# Altium footprint library base.PcbLib: 29 footprints (part 1 of 2)
Each footprint in its own frame and in the unit in brackets; x right, y up, seen from the top. Pads: shape width x height; smd on the part's side, far side on the other; paste and mask are expansions set on the pad; w line width, h text height; cw(c..) or ccw(c..) is an arc to the next point about the centre after c.
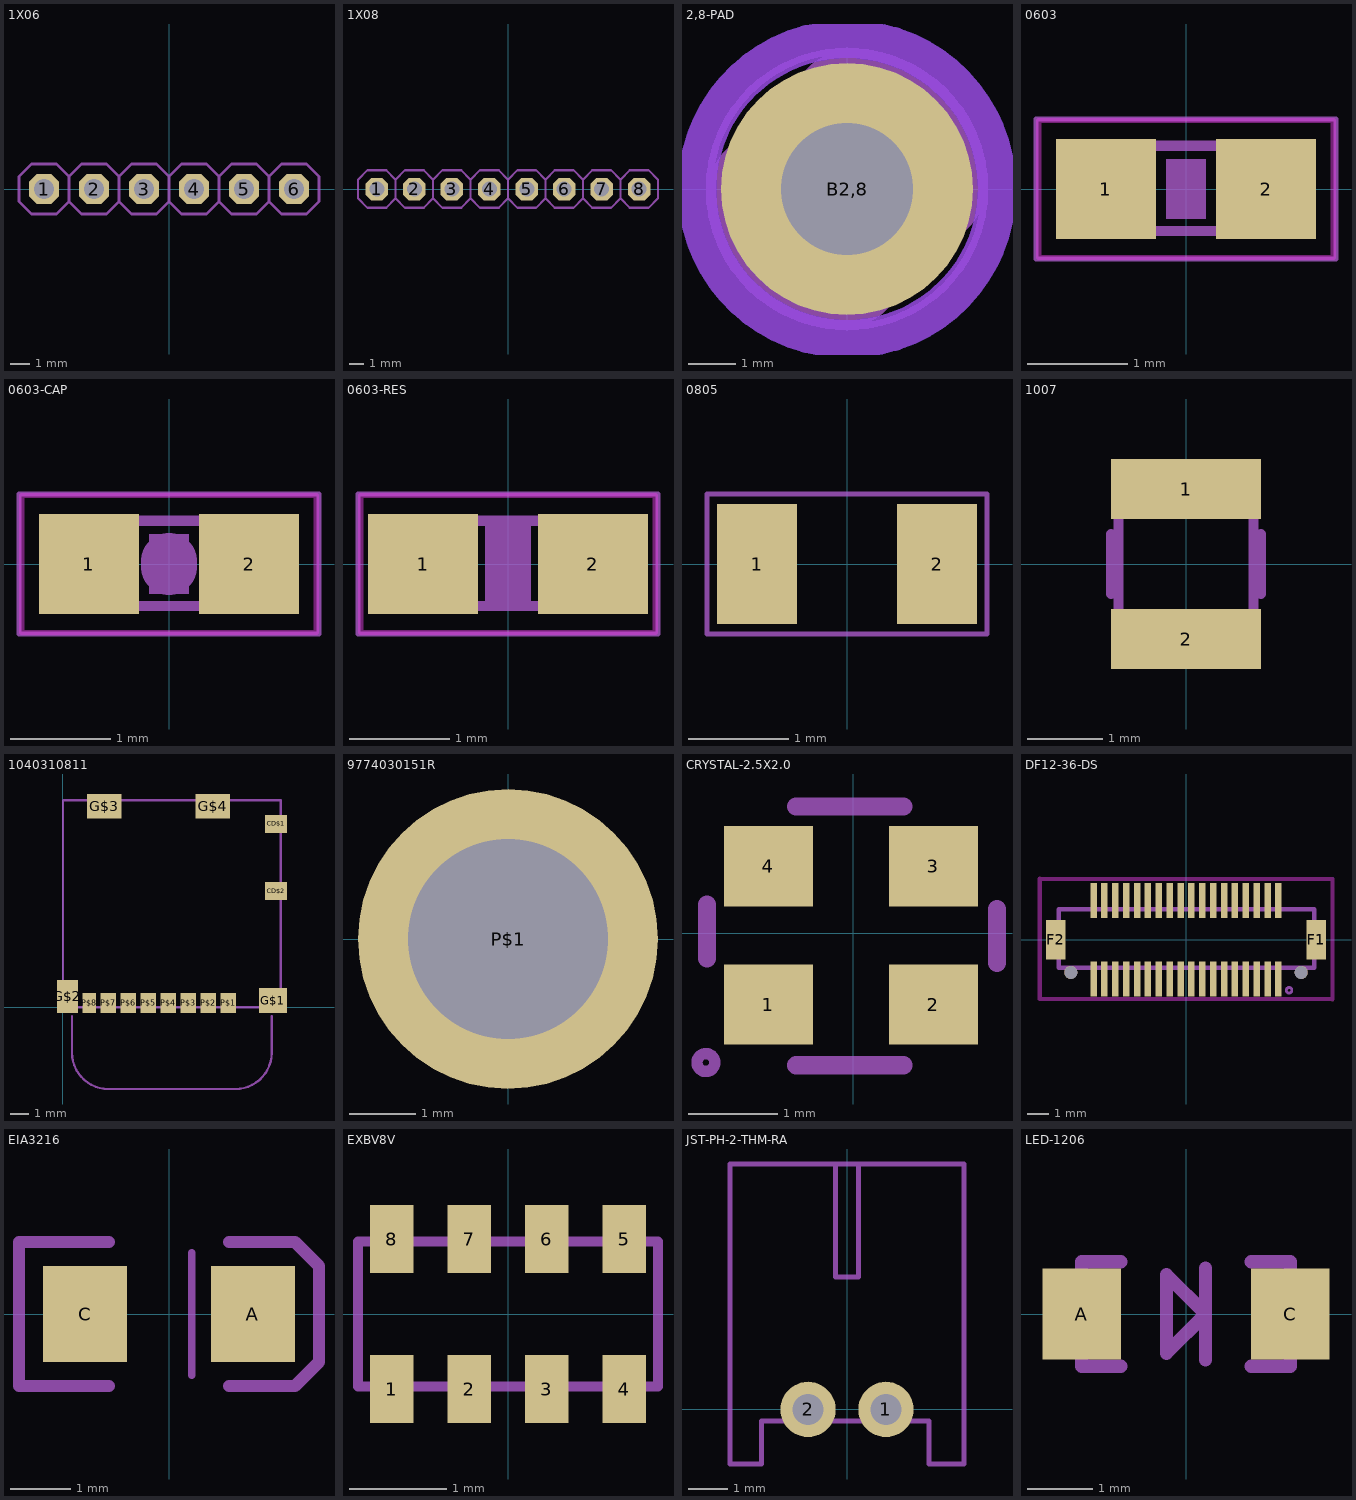
[diagram p0: the footprints below, top view; thin cyan lines are the x and y axes]

## 1X06 [mil] "1X06"
pads (6):
  oct 60x60 hole 40: 1(-250,0) 2(-150,0) 3(-50,0) 4(50,0) 5(150,0) 6(250,0)
Mechanical 3:
  region: 240,-10 240,10 260,10 260,-10
  region: -260,-10 -260,10 -240,10 -240,-10
  region: -160,-10 -160,10 -140,10 -140,-10
  region: -60,-10 -60,10 -40,10 -40,-10
  region: 40,-10 40,10 60,10 60,-10
  region: 140,-10 140,10 160,10 160,-10
Mechanical 7:
  lines w6: -200,-25 -175,-50 -125,-50 -100,-25 ; -200,-25 -225,-50 -275,-50 -300,-25 -300,25 -275,50 -225,50 -200,25 ; -200,-25 -200,25 ; -200,25 -175,50 -125,50 -100,25 ; -100,-25 -100,25 ; -100,-25 -75,-50 -25,-50 0,-25 ; -100,25 -75,50 -25,50 0,25 ; 0,-25 25,-50 75,-50 100,-25 ; 0,-25 0,25 ; 0,25 25,50 75,50 100,25 ; 100,-25 125,-50 175,-50 200,-25 ; 100,-25 100,25 ; 100,25 125,50 175,50 200,25 ; 200,-25 225,-50 275,-50 300,-25 300,25 275,50 225,50 200,25 ; 200,-25 200,25
3D body: height 50, standoff 0, extent 220,-30 280,30
3D body: height 50, standoff 0, extent 120,-30 180,30
3D body: height 50, standoff 0, extent 20,-30 80,30
3D body: height 50, standoff 0, extent -80,-30 -20,30
3D body: height 50, standoff 0, extent -180,-30 -120,30
3D body: height 50, standoff 0, extent -280,-30 -220,30
3D body: height 150, standoff 0, extent 240,-10 260,10
3D body: height 150, standoff 0, extent -260,-10 -240,10
3D body: height 150, standoff 0, extent -160,-10 -140,10
3D body: height 150, standoff 0, extent -60,-10 -40,10
3D body: height 150, standoff 0, extent 40,-10 60,10
3D body: height 150, standoff 0, extent 140,-10 160,10

## 1X08 [mil] "1X08"
pads (8):
  oct 60x60 hole 40: 1(-350,0) 2(-250,0) 3(-150,0) 4(-50,0) 5(50,0) 6(150,0) 7(250,0) 8(350,0)
Mechanical 3:
  region: 240,-10 240,10 260,10 260,-10
  region: 140,-10 140,10 160,10 160,-10
  region: 40,-10 40,10 60,10 60,-10
  region: -60,-10 -60,10 -40,10 -40,-10
  region: -160,-10 -160,10 -140,10 -140,-10
  region: -260,-10 -260,10 -240,10 -240,-10
  region: -360,-10 -360,10 -340,10 -340,-10
  region: 340,-10 340,10 360,10 360,-10
Mechanical 7:
  lines w6: -300,-25 -300,25 ; -300,-25 -325,-50 -375,-50 -400,-25 -400,25 -375,50 -325,50 -300,25 ; -300,-25 -275,-50 -225,-50 -200,-25 ; -300,25 -275,50 -225,50 -200,25 ; -200,-25 -175,-50 -125,-50 -100,-25 ; -200,-25 -200,25 ; -200,25 -175,50 -125,50 -100,25 ; -100,-25 -100,25 ; -100,-25 -75,-50 -25,-50 0,-25 ; -100,25 -75,50 -25,50 0,25 ; 0,-25 0,25 ; 0,-25 25,-50 75,-50 100,-25 ; 0,25 25,50 75,50 100,25 ; 100,-25 125,-50 175,-50 200,-25 ; 100,-25 100,25 ; 100,25 125,50 175,50 200,25 ; 200,-25 200,25 ; 200,-25 225,-50 275,-50 300,-25 ; 200,25 225,50 275,50 300,25 ; 300,-25 300,25 ; 300,-25 325,-50 375,-50 400,-25 400,25 375,50 325,50 300,25
3D body: height 150, standoff 0, extent 240,-10 260,10
3D body: height 150, standoff 0, extent 140,-10 160,10
3D body: height 150, standoff 0, extent 40,-10 60,10
3D body: height 150, standoff 0, extent -60,-10 -40,10
3D body: height 150, standoff 0, extent -160,-10 -140,10
3D body: height 150, standoff 0, extent -260,-10 -240,10
3D body: height 150, standoff 0, extent -360,-10 -340,10
3D body: height 150, standoff 0, extent 340,-10 360,10
3D body: height 50, standoff 0, extent -380,-30 -320,30
3D body: height 50, standoff 0, extent -280,-30 -220,30
3D body: height 50, standoff 0, extent -180,-30 -120,30
3D body: height 50, standoff 0, extent -80,-30 -20,30
3D body: height 50, standoff 0, extent 20,-30 80,30
3D body: height 50, standoff 0, extent 120,-30 180,30
3D body: height 50, standoff 0, extent 220,-30 280,30
3D body: height 50, standoff 0, extent 320,-30 380,30

## 2,8-PAD [mil] "2,8-PAD"
pads (1):
  round 210 / inner round 60 / far side round 210 hole 110.24: B2,8(0,0)
Top Layer keep-out:
  circle w32: c0,0 r125
  circle w32: c0,0 r125
Bottom Layer keep-out:
  circle w32: c0,0 r125
Mechanical 3:
  circle w18: c0,0 r25
  lines w90: -70,0 ccw(c0,0) 0,-70 ; 0,70 cw(c0,0) 70,0
Mechanical 7:
  circle w6: c0,0 r115
  circle w8: c0,0 r59.06
  lines w2: 0,-115 0,-105 ; 0,105 0,115
3D body: height 150, standoff 0, extent -115.39,-115.39 45.39,45.39
3D body: height 150, standoff 0, extent -45.39,-45.39 115.39,115.39
3D body: height 150, standoff 0, extent -34.29,-34.29 34.29,34.29
3D body: height 150, standoff 0, extent -141.44,-141.44 141.44,141.44
3D body: height 150, standoff 0, extent -141.44,-141.44 141.44,141.44
3D body: height 50, standoff 0, extent -55.6,-55.6 55.6,55.6

## 0603 [mm] "0603"
pads (2):
  rect 1x1 smd: 1(-0.8,0) 2(0.8,0)
Top Layer keep-out:
  lines w0.051: -1.473,-0.683 -1.473,0.683 1.473,0.683 1.473,-0.683 -1.473,-0.683
Mechanical 3:
  region: 0.33,-0.47 0.33,0.48 0.83,0.48 0.83,-0.47
  region: -0.838,-0.47 -0.838,0.48 -0.338,0.48 -0.338,-0.47
  lines w0.102: -0.356,-0.419 0.356,-0.419 ; -0.356,0.432 0.356,0.432
Mechanical 7:
  lines w0.051: -1.5,-0.7 -1.5,0.7 1.5,0.7 1.5,-0.7 -1.5,-0.7
Mechanical 11:
  region: -0.2,-0.3 -0.2,0.3 0.2,0.3 0.2,-0.3
3D body: height 1.27, standoff 0, extent 0.3,-0.5 1.3,0.5
3D body: height 1.27, standoff 0, extent -1.3,-0.5 -0.3,0.5
3D body: height 3.81, standoff 0, extent 0.33,-0.47 0.83,0.48
3D body: height 3.81, standoff 0, extent -0.838,-0.47 -0.338,0.48
3D body: height 3.81, standoff 0, extent -0.411,-0.474 0.411,-0.364
3D body: height 3.81, standoff 0, extent -0.411,0.377 0.411,0.487
3D body: height 3.81, standoff 0, extent -1.5,-0.71 -1.445,0.71
3D body: height 3.81, standoff 0, extent -1.5,-0.71 1.5,-0.656
3D body: height 3.81, standoff 0, extent 1.445,-0.71 1.5,0.71
3D body: height 3.81, standoff 0, extent -1.5,0.656 1.5,0.71

## 0603-CAP [mm] "0603-CAP"
pads (2):
  rect 1x1 smd: 1(-0.8,0) 2(0.8,0)
Top Layer keep-out:
  lines w0.051: -1.473,-0.683 1.473,-0.683 1.473,0.683 -1.473,0.683 -1.473,-0.683
Mechanical 3:
  region: -0.838,-0.47 -0.838,0.48 -0.338,0.48 -0.338,-0.47
  region: 0.33,-0.47 0.33,0.48 0.83,0.48 0.83,-0.47
  lines w0.102: -0.356,-0.419 0.356,-0.419 ; -0.356,0.432 0.356,0.432
Mechanical 7:
  lines w0.051: -1.5,-0.7 1.5,-0.7 1.5,0.7 -1.5,0.7 -1.5,-0.7
  lines w0.559: 0,-0.03 0,0.03
Mechanical 11:
  region: -0.2,-0.3 -0.2,0.3 0.2,0.3 0.2,-0.3
3D body: height 3.81, standoff 0, extent -1.5,0.656 1.5,0.71
3D body: height 3.81, standoff 0, extent 1.445,-0.71 1.5,0.71
3D body: height 3.81, standoff 0, extent -1.5,-0.71 1.5,-0.656
3D body: height 3.81, standoff 0, extent -1.5,-0.71 -1.445,0.71
3D body: height 3.81, standoff 0, extent -0.411,0.377 0.411,0.487
3D body: height 3.81, standoff 0, extent -0.411,-0.474 0.411,-0.364
3D body: height 3.81, standoff 0, extent -0.838,-0.47 -0.338,0.48
3D body: height 3.81, standoff 0, extent 0.33,-0.47 0.83,0.48
3D body: height 1.27, standoff 0, extent -1.3,-0.5 -0.3,0.5
3D body: height 1.27, standoff 0, extent 0.3,-0.5 1.3,0.5

## 0603-RES [mm] "0603-RES"
pads (2):
  rect 1.1x1 smd: 1(-0.85,0) 2(0.85,0)
Top Layer keep-out:
  lines w0.051: -1.473,-0.683 1.473,-0.683 1.473,0.683 -1.473,0.683 -1.473,-0.683
Mechanical 3:
  region: -0.838,-0.47 -0.838,0.48 -0.338,0.48 -0.338,-0.47
  region: 0.33,-0.47 0.33,0.48 0.83,0.48 0.83,-0.47
  lines w0.102: -0.356,-0.419 0.356,-0.419 ; -0.356,0.432 0.356,0.432
Mechanical 7:
  region: -0.229,-0.381 -0.229,0.381 0.229,0.381 0.229,-0.381
  lines w0.051: -1.5,-0.7 1.5,-0.7 1.5,0.7 -1.5,0.7 -1.5,-0.7
Mechanical 11:
  region: -0.2,-0.3 -0.2,0.3 0.2,0.3 0.2,-0.3
3D body: height 3.81, standoff 0, extent -1.5,0.656 1.5,0.71
3D body: height 3.81, standoff 0, extent 1.445,-0.71 1.5,0.71
3D body: height 3.81, standoff 0, extent -1.5,-0.71 1.5,-0.656
3D body: height 3.81, standoff 0, extent -1.5,-0.71 -1.445,0.71
3D body: height 3.81, standoff 0, extent -0.411,0.377 0.411,0.487
3D body: height 3.81, standoff 0, extent -0.411,-0.474 0.411,-0.364
3D body: height 3.81, standoff 0, extent -0.838,-0.47 -0.338,0.48
3D body: height 3.81, standoff 0, extent 0.33,-0.47 0.83,0.48
3D body: height 1.27, standoff 0, extent -1.4,-0.5 -0.3,0.5
3D body: height 1.27, standoff 0, extent 0.3,-0.5 1.4,0.5

## 0805 [mil] "0805"
pads (2):
  rect 31.5x47.24 smd: 1(-35.43,0) 2(35.43,0)
Mechanical 7:
  lines w2: -55.12,-27.56 55.12,-27.56 55.12,27.56 -55.12,27.56 -55.12,-27.56
3D body: height 50, standoff 0, extent -51.18,-23.62 -19.68,23.62
3D body: height 50, standoff 0, extent 19.68,-23.62 51.18,23.62

## 1007 [mm] "1007"
pads (2):
  rect 2x0.8 smd: 1(0,1) 2(0,-1)
Mechanical 3:
  lines w0.127: -0.9,-1.25 0.9,-1.25 0.9,1.25 -0.9,1.25 -0.9,-1.25
Mechanical 7:
  lines w0.127: -1,-0.4 -1,0.4 ; 1,-0.4 1,0.4
3D body: height 1.27, standoff 0, extent -1,-1.4 1,-0.6
3D body: height 1.27, standoff 0, extent -1,0.6 1,1.4
3D body: height 3.81, standoff 0, extent 0.831,-1.319 0.969,1.319
3D body: height 3.81, standoff 0, extent -0.969,-1.319 0.969,-1.181
3D body: height 3.81, standoff 0, extent -0.969,-1.319 -0.831,1.319
3D body: height 3.81, standoff 0, extent -0.969,1.181 0.969,1.319

## 1040310811 [mm] "1040310811"
pads (14):
  rect 1.2x1 smd: CD$1(11.74,10.1) CD$2(11.74,6.4)
  rect 1.55x1.35 smd: G$1(11.565,0.375)
  rect 1.17x1.8 smd: G$2(0.245,0.6)
  rect 1.9x1.35 smd: G$3(2.27,11.075) G$4(8.24,11.075)
  rect 0.85x1.1 smd: P$1(9.105,0.25) P$2(8.005,0.25) P$3(6.905,0.25) P$4(5.805,0.25) P$5(4.705,0.25) P$6(3.605,0.25) P$7(2.505,0.25)
  rect 0.75x1.1 smd: P$8(1.455,0.25)
Mechanical 5:
  lines w0.127: 0.5,-0.5 0.5,-2.5 ccw(c2.5,-2.5) 2.5,-4.5 9.5,-4.5 ccw(c9.5,-2.5) 11.5,-2.5 11.5,-0.5
Mechanical 8:
  lines w0.127: 0,0 0,11.4 12,11.4 12,0 0,0
3D body: height 1.27, standoff 0, extent 11.14,5.9 12.34,6.9
3D body: height 1.27, standoff 0, extent 11.14,9.6 12.34,10.6
3D body: height 1.27, standoff 0, extent 7.29,10.4 9.19,11.75
3D body: height 1.27, standoff 0, extent 1.32,10.4 3.22,11.75
3D body: height 1.27, standoff 0, extent -0.34,-0.3 0.83,1.5
3D body: height 1.27, standoff 0, extent 1.08,-0.3 1.83,0.8
3D body: height 1.27, standoff 0, extent 2.08,-0.3 2.93,0.8
3D body: height 1.27, standoff 0, extent 3.18,-0.3 4.03,0.8
3D body: height 1.27, standoff 0, extent 4.28,-0.3 5.13,0.8
3D body: height 1.27, standoff 0, extent 5.38,-0.3 6.23,0.8
3D body: height 1.27, standoff 0, extent 6.48,-0.3 7.33,0.8
3D body: height 1.27, standoff 0, extent 7.58,-0.3 8.43,0.8
3D body: height 1.27, standoff 0, extent 8.68,-0.3 9.53,0.8
3D body: height 1.27, standoff 0, extent 10.79,-0.3 12.34,1.05

## 9774030151R [mm] "9774030151R"
pads (1):
  round 4.5 / inner round 1.524 / far side round 4.5 hole 3: P$1(0,0)
3D body: height 1.27, standoff 0, extent -1.507,-1.507 1.507,1.507

## CRYSTAL-2.5X2.0 [mm] "CRYSTAL-2.5X2.0"
pads (4):
  rect 1x0.9 smd: 1(-0.95,-0.8) 2(0.9,-0.8) 3(0.9,0.75) 4(-0.95,0.75)
Mechanical 7:
  circle w0.127: c-1.65,-1.45 r0.1
  lines w0.203: -1.638,-0.281 -1.638,0.319 ; -0.638,-1.481 0.562,-1.481 ; -0.638,1.419 0.562,1.419 ; 1.612,-0.331 1.612,0.269
3D body: height 1.27, standoff 0, extent -1.45,0.3 -0.45,1.2
3D body: height 1.27, standoff 0, extent -1.45,-1.25 -0.45,-0.35
3D body: height 1.27, standoff 0, extent 0.4,0.3 1.4,1.2
3D body: height 1.27, standoff 0, extent 0.4,-1.25 1.4,-0.35

## DF12-36-DS [mm] "DF12-36-DS"
pads (40):
  rect 0.3x1.6 smd paste+0: 1(4.25,-1.8) 2(4.25,1.8) 3(3.75,-1.8) 4(3.75,1.8) 5(3.25,-1.8) 6(3.25,1.8) 7(2.75,-1.8) 8(2.75,1.8) 9(2.25,-1.8) 10(2.25,1.8) 11(1.75,-1.8) 12(1.75,1.8) 13(1.25,-1.8) 14(1.25,1.8) 15(0.75,-1.8) 16(0.75,1.8) 17(0.25,-1.8) 18(0.25,1.8) 19(-0.25,-1.8) 20(-0.25,1.8) 21(-0.75,-1.8) 22(-0.75,1.8) 23(-1.25,-1.8) 24(-1.25,1.8) 25(-1.75,-1.8) 26(-1.75,1.8) 27(-2.25,-1.8) 28(-2.25,1.8) 29(-2.75,-1.8) 30(-2.75,1.8) 31(-3.25,-1.8) 32(-3.25,1.8) 33(-3.75,-1.8) 34(-3.75,1.8) 35(-4.25,-1.8) 36(-4.25,1.8)
  rect 0.9x1.8 smd: F1(6,0) F2(-6,0)
  round 0.6 hole 0.6 unplated: MH1(5.3,-1.5) MH2(-5.3,-1.5)
Top Layer keep-out:
  lines w0.2: -6.732,-2.723 -6.732,2.804 6.742,2.791 6.742,-2.735 -6.732,-2.723
Top Paste:
  region: -3.138,-1.206 -3.138,-2.507 -3.358,-2.507 -3.358,-1.206
  region: 4.362,2.513 4.362,1.213 4.142,1.213 4.142,2.513
  region: 3.862,2.513 3.862,1.213 3.642,1.213 3.642,2.513
  region: 3.362,2.513 3.362,1.213 3.142,1.213 3.142,2.513
  region: 2.862,2.513 2.862,1.213 2.642,1.213 2.642,2.513
  region: 2.362,2.513 2.362,1.213 2.142,1.213 2.142,2.513
  region: 1.852,2.513 1.852,1.213 1.632,1.213 1.632,2.513
  region: 1.362,2.513 1.362,1.213 1.142,1.213 1.142,2.513
  region: 0.862,2.513 0.862,1.213 0.642,1.213 0.642,2.513
  region: 0.362,2.513 0.362,1.213 0.142,1.213 0.142,2.513
  region: -0.148,2.513 -0.148,1.213 -0.368,1.213 -0.368,2.513
  region: -0.638,2.513 -0.638,1.213 -0.858,1.213 -0.858,2.513
  region: -1.138,2.513 -1.138,1.213 -1.358,1.213 -1.358,2.513
  region: -1.638,2.513 -1.638,1.213 -1.858,1.213 -1.858,2.513
  region: -2.138,2.513 -2.138,1.213 -2.358,1.213 -2.358,2.513
  region: -2.638,2.513 -2.638,1.213 -2.858,1.213 -2.858,2.513
  region: -3.138,2.513 -3.138,1.213 -3.358,1.213 -3.358,2.513
  region: 4.362,-1.206 4.362,-2.507 4.142,-2.507 4.142,-1.206
  region: 3.862,-1.206 3.862,-2.507 3.642,-2.507 3.642,-1.206
  region: 3.362,-1.206 3.362,-2.507 3.142,-2.507 3.142,-1.206
  region: 2.862,-1.206 2.862,-2.507 2.642,-2.507 2.642,-1.206
  region: 2.362,-1.206 2.362,-2.507 2.142,-2.507 2.142,-1.206
  region: 1.862,-1.206 1.862,-2.507 1.642,-2.507 1.642,-1.206
  region: 1.362,-1.206 1.362,-2.507 1.142,-2.507 1.142,-1.206
  region: 0.862,-1.206 0.862,-2.507 0.642,-2.507 0.642,-1.206
  region: 0.362,-1.206 0.362,-2.507 0.142,-2.507 0.142,-1.206
  region: -0.138,-1.206 -0.138,-2.507 -0.358,-2.507 -0.358,-1.206
  region: -0.638,-1.206 -0.638,-2.507 -0.858,-2.507 -0.858,-1.206
  region: -1.138,-1.206 -1.138,-2.507 -1.358,-2.507 -1.358,-1.206
  region: -1.638,-1.206 -1.638,-2.507 -1.858,-2.507 -1.858,-1.206
  region: -2.138,-1.206 -2.138,-2.507 -2.358,-2.507 -2.358,-1.206
  region: -2.638,-1.206 -2.638,-2.507 -2.858,-2.507 -2.858,-1.206
  region: -4.138,-1.206 -4.138,-2.507 -4.358,-2.507 -4.358,-1.206
  region: -3.638,2.513 -3.638,1.213 -3.858,1.213 -3.858,2.513
  region: -4.138,2.513 -4.138,1.213 -4.358,1.213 -4.358,2.513
  region: -3.638,-1.206 -3.638,-2.507 -3.858,-2.507 -3.858,-1.206
Top Solder:
  region: 6.063,-1.499 6.063,-1.424 6.033,-1.276 5.976,-1.138 5.893,-1.013 5.786,-0.907 5.662,-0.823 5.523,-0.766 5.376,-0.737 5.301,-0.737 5.226,-0.737 5.078,-0.766 4.94,-0.823 4.815,-0.907 4.709,-1.013 4.625,-1.138 4.568,-1.276 4.539,-1.424 4.539,-1.499 4.539,-1.574 4.568,-1.721 4.625,-1.86 4.709,-1.984 4.815,-2.09 4.94,-2.174 5.078,-2.231 5.226,-2.261 5.301,-2.261 5.376,-2.261 5.523,-2.231 5.662,-2.174 5.786,-2.09 5.893,-1.984 5.976,-1.86 6.033,-1.721 6.063,-1.574 6.063,-1.499 6.059,-1.573 6.03,-1.72 5.973,-1.858 5.89,-1.982 5.784,-2.088 5.66,-2.171 5.522,-2.228 5.375,-2.257 5.301,-2.261
  region: -4.539,-1.499 -4.539,-1.424 -4.568,-1.276 -4.625,-1.138 -4.709,-1.013 -4.815,-0.907 -4.94,-0.823 -5.078,-0.766 -5.226,-0.737 -5.301,-0.737 -5.376,-0.737 -5.523,-0.766 -5.662,-0.823 -5.786,-0.907 -5.893,-1.013 -5.976,-1.138 -6.033,-1.276 -6.063,-1.424 -6.063,-1.499 -6.063,-1.574 -6.033,-1.721 -5.976,-1.86 -5.893,-1.984 -5.786,-2.09 -5.662,-2.174 -5.523,-2.231 -5.376,-2.261 -5.301,-2.261 -5.226,-2.261 -5.078,-2.231 -4.94,-2.174 -4.815,-2.09 -4.709,-1.984 -4.625,-1.86 -4.568,-1.721 -4.539,-1.574 -4.539,-1.499 -4.542,-1.573 -4.572,-1.72 -4.629,-1.858 -4.712,-1.982 -4.817,-2.088 -4.942,-2.171 -5.08,-2.228 -5.226,-2.257 -5.301,-2.261
Mechanical 3:
  region: 0.646,-1.118 0.849,-1.118 0.849,-2.388 0.646,-2.388
  region: 1.147,2.502 1.35,2.502 1.35,1.232 1.147,1.232
  region: 1.149,-1.12 1.352,-1.12 1.352,-2.39 1.149,-2.39
  region: 0.149,-1.11 0.352,-1.11 0.352,-2.38 0.149,-2.38
  region: -0.352,-1.113 -0.149,-1.113 -0.149,-2.383 -0.352,-2.383
  region: -0.85,-1.105 -0.646,-1.105 -0.646,-2.375 -0.85,-2.375
  region: -1.353,-1.105 -1.149,-1.105 -1.149,-2.375 -1.353,-2.375
  region: -1.853,-1.105 -1.65,-1.105 -1.65,-2.375 -1.853,-2.375
  region: -2.351,-1.107 -2.148,-1.107 -2.148,-2.377 -2.351,-2.377
  region: -2.854,-1.102 -2.65,-1.102 -2.65,-2.372 -2.854,-2.372
  region: -3.354,-1.105 -3.151,-1.105 -3.151,-2.375 -3.354,-2.375
  region: 1.644,-1.12 1.848,-1.12 1.848,-2.39 1.644,-2.39
  region: 2.145,-1.12 2.348,-1.12 2.348,-2.39 2.145,-2.39
  region: 2.648,-1.12 2.851,-1.12 2.851,-2.39 2.648,-2.39
  region: 3.148,-1.118 3.351,-1.118 3.351,-2.388 3.148,-2.388
  region: 3.646,-1.12 3.849,-1.12 3.849,-2.39 3.646,-2.39
  region: 4.149,-1.12 4.352,-1.12 4.352,-2.39 4.149,-2.39
  region: 0.644,2.502 0.847,2.502 0.847,1.232 0.644,1.232
  region: 0.149,2.504 0.352,2.504 0.352,1.234 0.149,1.234
  region: -0.354,2.504 -0.151,2.504 -0.151,1.234 -0.354,1.234
  region: -0.852,2.51 -0.649,2.51 -0.649,1.24 -0.852,1.24
  region: -1.353,2.51 -1.149,2.51 -1.149,1.24 -1.353,1.24
  region: -1.856,2.507 -1.653,2.507 -1.653,1.237 -1.856,1.237
  region: -2.356,2.507 -2.153,2.507 -2.153,1.237 -2.356,1.237
  region: -2.856,2.507 -2.653,2.507 -2.653,1.237 -2.856,1.237
  region: -3.357,2.51 -3.153,2.51 -3.153,1.24 -3.357,1.24
  region: 1.647,2.499 1.85,2.499 1.85,1.229 1.647,1.229
  region: 2.147,2.499 2.351,2.499 2.351,1.229 2.147,1.229
  region: 2.645,2.499 2.849,2.499 2.849,1.229 2.645,1.229
  region: 3.143,2.499 3.346,2.499 3.346,1.229 3.143,1.229
  region: 3.649,2.499 3.852,2.499 3.852,1.229 3.649,1.229
  region: 4.149,2.499 4.352,2.499 4.352,1.229 4.149,1.229
  region: -3.854,-1.102 -3.65,-1.102 -3.65,-2.372 -3.854,-2.372
  region: -4.354,-1.105 -4.151,-1.105 -4.151,-2.375 -4.354,-2.375
  region: -3.856,2.507 -3.653,2.507 -3.653,1.237 -3.856,1.237
  region: -4.357,2.51 -4.153,2.51 -4.153,1.24 -4.357,1.24
Mechanical 7:
  circle w0.127: c4.742,-2.324 r0.127
  lines w0.203: -5.849,-1.297 5.892,-1.284 5.892,1.41 -5.849,1.398 -5.849,-1.297
3D body: height 3.81, standoff 0, extent -6.84,2.683 6.85,2.912
3D body: height 3.81, standoff 0, extent 6.634,-2.844 6.85,2.899
3D body: height 3.81, standoff 0, extent -6.84,-2.831 -6.624,2.912
3D body: height 3.81, standoff 0, extent -6.84,-2.844 6.85,-2.614
3D body: height 3.81, standoff 0, extent 0.646,-2.388 0.849,-1.118
3D body: height 3.81, standoff 0, extent 1.147,1.232 1.35,2.502
3D body: height 3.81, standoff 0, extent 1.149,-2.39 1.352,-1.12
3D body: height 3.81, standoff 0, extent 0.149,-2.38 0.352,-1.11
3D body: height 3.81, standoff 0, extent -0.352,-2.383 -0.149,-1.113
3D body: height 3.81, standoff 0, extent -0.85,-2.375 -0.646,-1.105
3D body: height 3.81, standoff 0, extent -1.353,-2.375 -1.149,-1.105
3D body: height 3.81, standoff 0, extent -1.853,-2.375 -1.65,-1.105
3D body: height 3.81, standoff 0, extent -2.351,-2.377 -2.148,-1.107
3D body: height 3.81, standoff 0, extent -2.854,-2.372 -2.65,-1.102
3D body: height 3.81, standoff 0, extent -3.354,-2.375 -3.151,-1.105
3D body: height 3.81, standoff 0, extent 1.644,-2.39 1.848,-1.12
3D body: height 3.81, standoff 0, extent 2.145,-2.39 2.348,-1.12
3D body: height 3.81, standoff 0, extent 2.648,-2.39 2.851,-1.12
3D body: height 3.81, standoff 0, extent 3.148,-2.388 3.351,-1.118
3D body: height 3.81, standoff 0, extent 3.646,-2.39 3.849,-1.12
3D body: height 3.81, standoff 0, extent 4.149,-2.39 4.352,-1.12
3D body: height 3.81, standoff 0, extent 0.644,1.232 0.847,2.502
3D body: height 3.81, standoff 0, extent 0.149,1.234 0.352,2.504
3D body: height 3.81, standoff 0, extent -0.354,1.234 -0.151,2.504
3D body: height 3.81, standoff 0, extent -0.852,1.24 -0.649,2.51
3D body: height 3.81, standoff 0, extent -1.353,1.24 -1.149,2.51
3D body: height 3.81, standoff 0, extent -1.856,1.237 -1.653,2.507
3D body: height 3.81, standoff 0, extent -2.356,1.237 -2.153,2.507
3D body: height 3.81, standoff 0, extent -2.856,1.237 -2.653,2.507
3D body: height 3.81, standoff 0, extent -3.357,1.24 -3.153,2.51
3D body: height 3.81, standoff 0, extent 1.647,1.229 1.85,2.499
3D body: height 3.81, standoff 0, extent 2.147,1.229 2.351,2.499
3D body: height 3.81, standoff 0, extent 2.645,1.229 2.849,2.499
3D body: height 3.81, standoff 0, extent 3.143,1.229 3.346,2.499
3D body: height 3.81, standoff 0, extent 3.649,1.229 3.852,2.499
3D body: height 3.81, standoff 0, extent 4.149,1.229 4.352,2.499
3D body: height 3.81, standoff 0, extent -3.358,-2.507 -3.138,-1.206
3D body: height 3.81, standoff 0, extent 4.142,1.213 4.362,2.513
3D body: height 3.81, standoff 0, extent 3.642,1.213 3.862,2.513
3D body: height 3.81, standoff 0, extent 3.142,1.213 3.362,2.513
3D body: height 3.81, standoff 0, extent 2.642,1.213 2.862,2.513
3D body: height 3.81, standoff 0, extent 2.142,1.213 2.362,2.513
3D body: height 3.81, standoff 0, extent 1.632,1.213 1.852,2.513
3D body: height 3.81, standoff 0, extent 1.142,1.213 1.362,2.513
3D body: height 3.81, standoff 0, extent 0.642,1.213 0.862,2.513
3D body: height 3.81, standoff 0, extent 0.142,1.213 0.362,2.513
3D body: height 3.81, standoff 0, extent -0.368,1.213 -0.148,2.513
3D body: height 3.81, standoff 0, extent -0.858,1.213 -0.638,2.513
3D body: height 3.81, standoff 0, extent -1.358,1.213 -1.138,2.513
3D body: height 3.81, standoff 0, extent -1.858,1.213 -1.638,2.513
3D body: height 3.81, standoff 0, extent -2.358,1.213 -2.138,2.513
3D body: height 3.81, standoff 0, extent -2.858,1.213 -2.638,2.513
3D body: height 3.81, standoff 0, extent -3.358,1.213 -3.138,2.513
3D body: height 3.81, standoff 0, extent 4.142,-2.507 4.362,-1.206
3D body: height 3.81, standoff 0, extent 3.642,-2.507 3.862,-1.206
3D body: height 3.81, standoff 0, extent 3.142,-2.507 3.362,-1.206
3D body: height 3.81, standoff 0, extent 2.642,-2.507 2.862,-1.206
3D body: height 3.81, standoff 0, extent 2.142,-2.507 2.362,-1.206
3D body: height 3.81, standoff 0, extent 1.642,-2.507 1.862,-1.206
3D body: height 3.81, standoff 0, extent 1.142,-2.507 1.362,-1.206
3D body: height 3.81, standoff 0, extent 0.642,-2.507 0.862,-1.206
3D body: height 3.81, standoff 0, extent 0.142,-2.507 0.362,-1.206
3D body: height 3.81, standoff 0, extent -0.358,-2.507 -0.138,-1.206
3D body: height 3.81, standoff 0, extent -0.858,-2.507 -0.638,-1.206
3D body: height 3.81, standoff 0, extent -1.358,-2.507 -1.138,-1.206
3D body: height 3.81, standoff 0, extent -1.858,-2.507 -1.638,-1.206
3D body: height 3.81, standoff 0, extent -2.358,-2.507 -2.138,-1.206
3D body: height 3.81, standoff 0, extent -2.858,-2.507 -2.638,-1.206
3D body: height 3.81, standoff 0, extent -3.854,-2.372 -3.65,-1.102
3D body: height 3.81, standoff 0, extent -4.354,-2.375 -4.151,-1.105
3D body: height 3.81, standoff 0, extent -3.856,1.237 -3.653,2.507
3D body: height 3.81, standoff 0, extent -4.357,1.24 -4.153,2.51
3D body: height 3.81, standoff 0, extent -4.358,-2.507 -4.138,-1.206
3D body: height 3.81, standoff 0, extent -3.858,1.213 -3.638,2.513
3D body: height 3.81, standoff 0, extent -4.358,1.213 -4.138,2.513
3D body: height 3.81, standoff 0, extent -3.858,-2.507 -3.638,-1.206
3D body: height 3.81, standoff 0, extent 4.539,-2.261 6.063,-0.737
3D body: height 3.81, standoff 0, extent -6.063,-2.261 -4.539,-0.737
3D body: height 1.27, standoff 0, extent 4.1,-2.6 4.4,-1
3D body: height 1.27, standoff 0, extent 4.1,1 4.4,2.6
3D body: height 1.27, standoff 0, extent 3.6,-2.6 3.9,-1
3D body: height 1.27, standoff 0, extent 3.6,1 3.9,2.6
3D body: height 1.27, standoff 0, extent 3.1,-2.6 3.4,-1
3D body: height 1.27, standoff 0, extent 3.1,1 3.4,2.6
3D body: height 1.27, standoff 0, extent 2.6,-2.6 2.9,-1
3D body: height 1.27, standoff 0, extent 2.6,1 2.9,2.6
3D body: height 1.27, standoff 0, extent 2.1,-2.6 2.4,-1
3D body: height 1.27, standoff 0, extent 2.1,1 2.4,2.6
3D body: height 1.27, standoff 0, extent 1.6,-2.6 1.9,-1
3D body: height 1.27, standoff 0, extent 1.6,1 1.9,2.6
3D body: height 1.27, standoff 0, extent 1.1,-2.6 1.4,-1
3D body: height 1.27, standoff 0, extent 1.1,1 1.4,2.6
3D body: height 1.27, standoff 0, extent 0.6,-2.6 0.9,-1
3D body: height 1.27, standoff 0, extent 0.6,1 0.9,2.6
3D body: height 1.27, standoff 0, extent 0.1,-2.6 0.4,-1
3D body: height 1.27, standoff 0, extent 0.1,1 0.4,2.6
3D body: height 1.27, standoff 0, extent -0.4,-2.6 -0.1,-1
3D body: height 1.27, standoff 0, extent -0.4,1 -0.1,2.6
3D body: height 1.27, standoff 0, extent -0.9,-2.6 -0.6,-1
3D body: height 1.27, standoff 0, extent -0.9,1 -0.6,2.6
3D body: height 1.27, standoff 0, extent -1.4,-2.6 -1.1,-1
3D body: height 1.27, standoff 0, extent -1.4,1 -1.1,2.6
3D body: height 1.27, standoff 0, extent -1.9,-2.6 -1.6,-1
3D body: height 1.27, standoff 0, extent -1.9,1 -1.6,2.6
3D body: height 1.27, standoff 0, extent -2.4,-2.6 -2.1,-1
3D body: height 1.27, standoff 0, extent -2.4,1 -2.1,2.6
3D body: height 1.27, standoff 0, extent -2.9,-2.6 -2.6,-1
3D body: height 1.27, standoff 0, extent -2.9,1 -2.6,2.6
3D body: height 1.27, standoff 0, extent -3.4,-2.6 -3.1,-1
3D body: height 1.27, standoff 0, extent -3.4,1 -3.1,2.6
3D body: height 1.27, standoff 0, extent 5.55,-0.9 6.45,0.9
3D body: height 1.27, standoff 0, extent -6.45,-0.9 -5.55,0.9
3D body: height 1.27, standoff 0, extent -3.9,-2.6 -3.6,-1
3D body: height 1.27, standoff 0, extent -3.9,1 -3.6,2.6
3D body: height 1.27, standoff 0, extent -4.4,-2.6 -4.1,-1
3D body: height 1.27, standoff 0, extent -4.4,1 -4.1,2.6
3D body: height 1.27, standoff 0, extent 4.994,-1.806 5.606,-1.194
3D body: height 1.27, standoff 0, extent -5.606,-1.806 -4.994,-1.194

## EIA3216 [mm] "EIA3216"
pads (2):
  rect 1.4x1.6 smd: A(1.4,0) C(-1.4,0)
Mechanical 7:
  lines w0.127: 0.381,-1.016 0.381,1.016
  lines w0.203: -1,-1.2 -2.5,-1.2 -2.5,1.2 -1,1.2 ; 1,-1.2 2.1,-1.2 2.5,-0.8 2.5,0.8 2.1,1.2 1,1.2
3D body: height 1.27, standoff 0, extent -2.1,-0.8 -0.7,0.8
3D body: height 1.27, standoff 0, extent 0.7,-0.8 2.1,0.8

## EXBV8V [mm] "EXBV8V"
pads (8):
  rect 0.45x0.7 smd: 1(-1.2,-0.775) 2(-0.4,-0.775) 3(0.4,-0.775) 4(1.2,-0.775) 5(1.2,0.775) 6(0.4,0.775) 7(-0.4,0.775) 8(-1.2,0.775)
Mechanical 3:
  lines w0.102: -1.55,-0.75 -1.35,-0.75 cw(c-1.2,-0.75) -1.2,-0.6 cw(c-1.2,-0.75) -1.05,-0.75 -0.55,-0.75 cw(c-0.4,-0.75) -0.4,-0.6 cw(c-0.4,-0.75) -0.25,-0.75 0.25,-0.75 cw(c0.4,-0.75) 0.4,-0.6 cw(c0.4,-0.75) 0.55,-0.75 1.05,-0.75 cw(c1.2,-0.75) 1.2,-0.6 cw(c1.2,-0.75) 1.35,-0.75 1.55,-0.75 ; -1.55,0.75 -1.35,0.75 ccw(c-1.2,0.75) -1.2,0.6 ccw(c-1.2,0.75) -1.05,0.75 -0.55,0.75 ccw(c-0.4,0.75) -0.4,0.6 ccw(c-0.4,0.75) -0.25,0.75 0.25,0.75 ccw(c0.4,0.75) 0.4,0.6 ccw(c0.4,0.75) 0.55,0.75 1.05,0.75 ccw(c1.2,0.75) 1.2,0.6 ccw(c1.2,0.75) 1.35,0.75 1.55,0.75
Mechanical 7:
  lines w0.102: -1.55,-0.75 -1.55,0.75 ; 1.55,-0.75 1.55,0.75
3D body: height 3.81, standoff 0, extent -1.605,0.695 -1.295,0.805
3D body: height 3.81, standoff 0, extent -1.105,0.695 -0.495,0.805
3D body: height 3.81, standoff 0, extent -0.605,0.545 -0.345,0.805
3D body: height 3.81, standoff 0, extent -0.455,0.545 -0.195,0.805
3D body: height 3.81, standoff 0, extent -0.305,0.695 0.305,0.805
3D body: height 3.81, standoff 0, extent 0.495,0.695 1.105,0.805
3D body: height 3.81, standoff 0, extent 1.295,0.695 1.605,0.805
3D body: height 3.81, standoff 0, extent 1.295,-0.805 1.605,-0.695
3D body: height 3.81, standoff 0, extent 0.495,-0.805 1.105,-0.695
3D body: height 3.81, standoff 0, extent -0.305,-0.805 0.305,-0.695
3D body: height 3.81, standoff 0, extent -0.455,-0.805 -0.195,-0.545
3D body: height 3.81, standoff 0, extent -0.605,-0.805 -0.345,-0.545
3D body: height 3.81, standoff 0, extent -1.105,-0.805 -0.495,-0.695
3D body: height 3.81, standoff 0, extent -1.605,-0.805 -1.295,-0.695
3D body: height 3.81, standoff 0, extent -1.405,0.545 -1.145,0.805
3D body: height 3.81, standoff 0, extent -1.255,0.545 -0.995,0.805
3D body: height 3.81, standoff 0, extent -1.255,-0.805 -0.995,-0.545
3D body: height 3.81, standoff 0, extent -1.405,-0.805 -1.145,-0.545
3D body: height 3.81, standoff 0, extent 0.995,0.545 1.255,0.805
3D body: height 3.81, standoff 0, extent 1.145,0.545 1.405,0.805
3D body: height 3.81, standoff 0, extent 1.145,-0.805 1.405,-0.545
3D body: height 3.81, standoff 0, extent 0.995,-0.805 1.255,-0.545
3D body: height 3.81, standoff 0, extent 0.195,0.545 0.455,0.805
3D body: height 3.81, standoff 0, extent 0.345,0.545 0.605,0.805
3D body: height 3.81, standoff 0, extent 0.345,-0.805 0.605,-0.545
3D body: height 3.81, standoff 0, extent 0.195,-0.805 0.455,-0.545
3D body: height 1.27, standoff 0, extent -1.425,-1.125 -0.975,-0.425
3D body: height 1.27, standoff 0, extent -0.625,-1.125 -0.175,-0.425
3D body: height 1.27, standoff 0, extent 0.175,-1.125 0.625,-0.425
3D body: height 1.27, standoff 0, extent 0.975,-1.125 1.425,-0.425
3D body: height 1.27, standoff 0, extent 0.975,0.425 1.425,1.125
3D body: height 1.27, standoff 0, extent 0.175,0.425 0.625,1.125
3D body: height 1.27, standoff 0, extent -0.625,0.425 -0.175,1.125
3D body: height 1.27, standoff 0, extent -1.425,0.425 -0.975,1.125

## JST-PH-2-THM-RA [mil] "JST-PH-2-THM-RA"
pads (2):
  round 56 / inner round 60 / far side round 56 hole 31.5: 1(39.37,0) 2(-39.37,0)
Mechanical 7:
  lines w5: -11.81,248.03 -11.81,133.86 11.81,133.86 11.81,248.03 ; -118.11,-55.12 -118.11,248.03 118.11,248.03 118.11,-55.12 86.61,-55.12 82.68,-55.12 82.68,-11.81 -86.61,-11.81 -86.61,-55.12 -118.11,-55.12
  text "+" at 19.13,-82.52 h86.8
  text "-" at -56.26,-74.65 h86.8
3D body: height 50, standoff 0, extent -69.63,-30.26 -9.11,30.26
3D body: height 50, standoff 0, extent 9.11,-30.26 69.63,30.26

## LED-1206 [mm] "LED-1206"
pads (2):
  rect 1.2x1.4 smd: A(-1.6,0) C(1.6,0)
Mechanical 7:
  lines w0.203: -1,-0.8 -1.6,-0.8 -1.6,0.8 -1,0.8 ; 0.3,-0.7 0.3,0 ; 0.3,0.7 0.3,0 ; 1,-0.8 1.6,-0.8 1.6,0.8 1,0.8 ; 0.3,0 -0.3,0.6 -0.3,-0.6 0.3,0
3D body: height 1.27, standoff 0, extent -2.2,-0.7 -1,0.7
3D body: height 1.27, standoff 0, extent 1,-0.7 2.2,0.7